# EAGLE library part SDCARD-DEV (library sd-card)
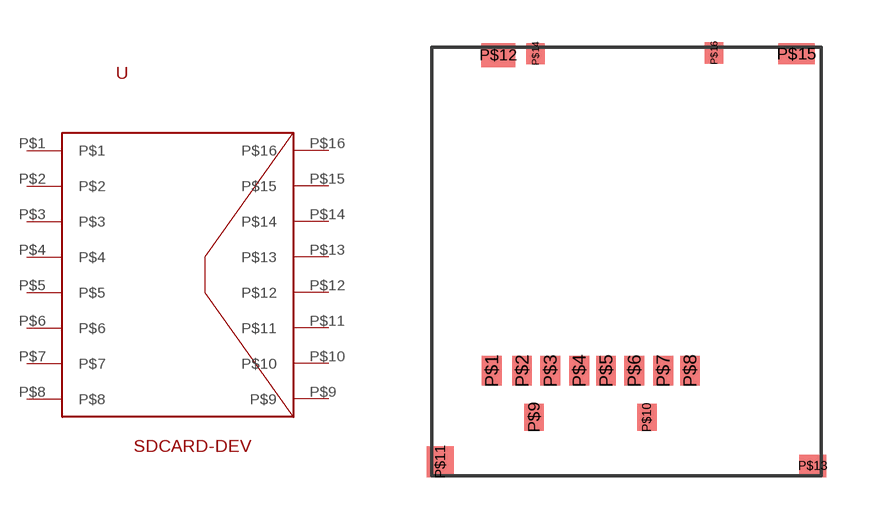
[diagram p0: symbol with the pads of SDCARD-FOOT; footprint SDCARD-FOOT]

Designator prefix -

## SDCARD-DEV  [SDCARD-FOOT]
P$1  P$1
P$2  P$2
P$3  P$3
P$4  P$4
P$5  P$5
P$6  P$6
P$7  P$7
P$8  P$8
P$9  P$9
P$10  P$10
P$11  P$11
P$12  P$12
P$13  P$13
P$14  P$14
P$15  P$15
P$16  P$16

## Footprint SDCARD-FOOT (pad centres in mm)
smd 0.7 x 1.05: P$1 -4.775,3.725; P$2 -3.7,3.725; P$3 -2.7,3.725; P$4 -1.675,3.725; P$5 -0.725,3.725; P$6 0.275,3.725; P$7 1.3,3.725; P$8 2.25,3.725
smd 0.7 x 0.95: P$9 -3.275,2.075; P$10 0.725,2.075
smd 0.95 x 1.1: P$11 -6.6,0.5
smd 1.2 x 0.85: P$12 -4.55,14.925
smd 0.95 x 0.8: P$13 6.6,0.35
smd 0.65 x 0.75: P$14 -3.225,14.975; P$16 3.1,15
smd 1.3 x 0.75: P$15 6.025,14.975